# EAGLE library part DF11-18DP-2DSA(24) (library sense_pcb_components)
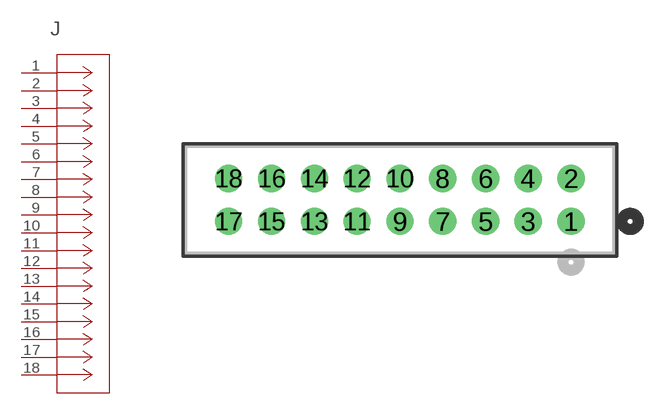
[diagram p0: symbol with the pads of CON18_2X9_UF_DF11_HIR; footprint CON18_2X9_UF_DF11_HIR]

Designator prefix J

## DF11-18DP-2DSA(24) (COPYRIGHT: Copyright (C) 2023 Ultra Librarian. All rights reserved.; MANUFACTURER_PART_NUMBER: DF11-18DP-2DSA(24); MFR_NAME: Hirose)  [CON18_2X9_UF_DF11_HIR]
1  1  pas
2  2  pas
3  3  pas
4  4  pas
5  5  pas
6  6  pas
7  7  pas
8  8  pas
9  9  pas
10  10  pas
11  11  pas
12  12  pas
13  13  pas
14  14  pas
15  15  pas
16  16  pas
17  17  pas
18  18  pas

## Footprint CON18_2X9_UF_DF11_HIR (pad centres in mm)
drill 0.762 pad 1.27: 1 0,0; 2 0,2.007; 3 -2.007,0; 4 -2.007,2.007; 5 -3.988,0; 6 -3.988,2.007; 7 -5.994,0; 8 -5.994,2.007; 9 -8.001,0; 10 -8.001,2.007; 11 -10.008,0; 12 -10.008,2.007; 13 -11.989,0; 14 -11.989,2.007; 15 -13.995,0; 16 -13.995,2.007; 17 -16.002,0; 18 -16.002,2.007